# Altium schematic symbol library kmilo17pet-TI_MSP430.SchLib: 1463 symbols (part 120 of 130)
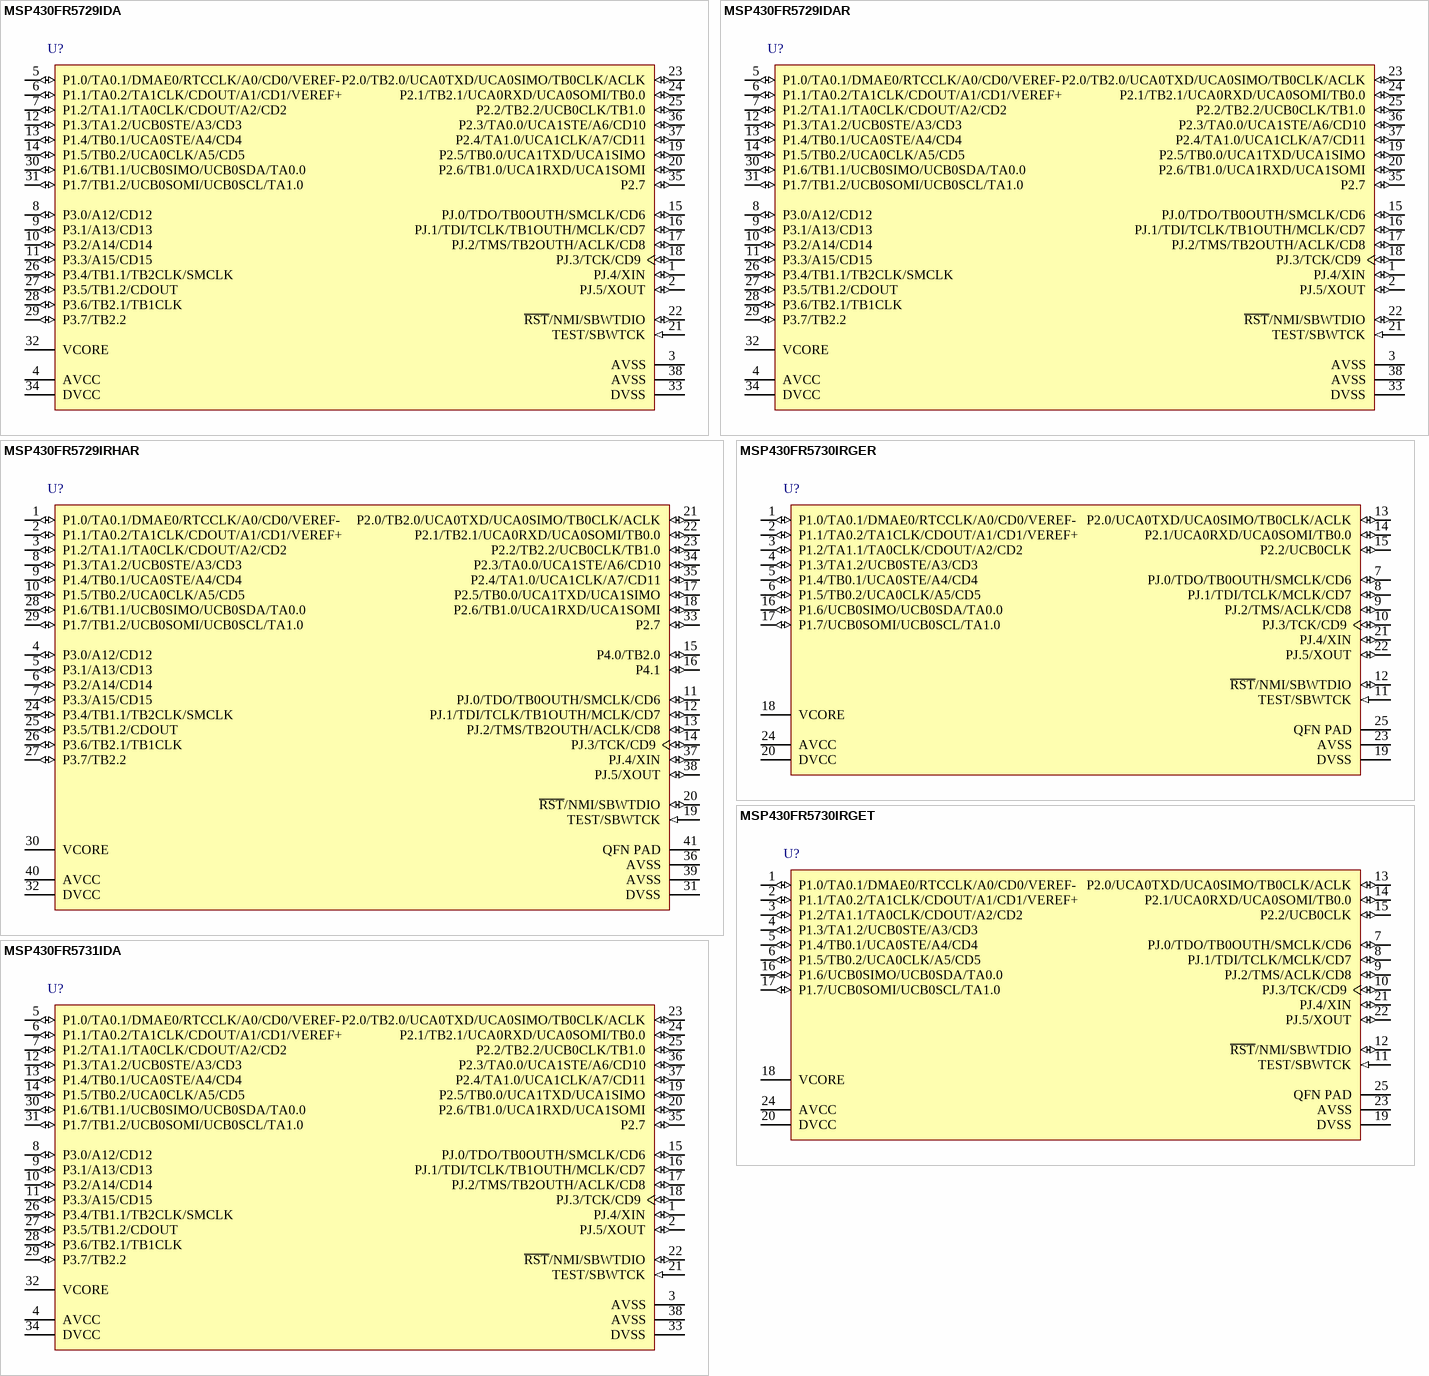
[diagram p395: symbols MSP430FR5729IDA to MSP430FR5731IDA]

## MSP430FR5729IRHAR
designator U?
8 MHz Mixed Signal Microcontroller with 1024 B SRAM and 33 GPIOs, -40 to 85 degC, 40-pin QFN (RHA), Green (RoHS & no Sb/Br); Manufacturer: Texas Instruments; PartNumber: MSP430FR5729IRHAR; ADC: 10-bit SAR; ADC Channels: 14; Brown Out Reset: Yes; DMA: 3; FRAM(KB): 16; Frequency(MHz): 8; GPIO: 33; Multiplier: 32x32; SRAM(B): 1024; SubFamily: FRAM Series; Timers - 16-bit: 5; USCI_A (UART/LIN/IrDA/SPI): 2; USCI_B (I2C & SPI): 1; DatasheetVersion: SLAS639D; PackageReference: RHA40-2900X2900TP; PackageDescription: 40-Pin Plastic Flat Pack, Body 6 x 6 mm, Pitch 0.5 mm; Supplier 1: Digi-Key; Supplier Part Number 1: 296-29233-2-ND; Supplier 2: Digi-Key; Supplier Part Number 2: 296-29233-1-ND; Supplier 3: Digi-Key; Supplier Part Number 3: 296-29233-6-ND; Supplier 4: Newark; Supplier Part Number 4: 45T9757; Supplier 5: Mouser; Supplier Part Number 5: 595-MSP430FR5729IDAR; Comparators: Yes; Eco-Plan: Green (RoHS & no Sb/Br); Real-Time Clock: Yes; SVS: Yes; Watchdog: Yes; Mounting Technology: Surface Mount; Code_JEDEC: MO-153; ComponentLink1Description: Manufacturer URL; ComponentLink1URL: http://www.ti.com/; ComponentLink2Description: Datasheet; ComponentLink2URL: http://www.ti.com/general/docs/lit/getliterature.tsp?genericPartNumber=MSP430FR5729&fileType=pdf; ComponentLink3Description: Package Specification; ComponentLink3URL: http://www.ti.com/litv/pdf/mtss003d
footprint TI-RHA40-2900X2900TP_N (QFN, 40-Leads, Body 6x6mm, Pitch 0.5mm, Thermal Pad 2.9x2.9mm, IPC Medium Density)
pins: 1 P1.0/TA0.1/DMAE0/RTCCLK/A0/CD0/VEREF- (io), 2 P1.1/TA0.2/TA1CLK/CDOUT/A1/CD1/VEREF+ (io), 3 P1.2/TA1.1/TA0CLK/CDOUT/A2/CD2 (io), 4 P3.0/A12/CD12 (io), 5 P3.1/A13/CD13 (io), 6 P3.2/A14/CD14 (io), 7 P3.3/A15/CD15 (io), 8 P1.3/TA1.2/UCB0STE/A3/CD3 (io), 9 P1.4/TB0.1/UCA0STE/A4/CD4 (io), 10 P1.5/TB0.2/UCA0CLK/A5/CD5 (io), 11 PJ.0/TDO/TB0OUTH/SMCLK/CD6 (io), 12 PJ.1/TDI/TCLK/TB1OUTH/MCLK/CD7 (io), 13 PJ.2/TMS/TB2OUTH/ACLK/CD8 (io), 14 PJ.3/TCK/CD9 (io), 15 P4.0/TB2.0 (io), 16 P4.1 (io) "General-purpose digital I/O with port interrupt and wake up from LPMx.5 (not available on package options DA, PW, RGE)", 17 P2.5/TB0.0/UCA1TXD/UCA1SIMO (io), 18 P2.6/TB1.0/UCA1RXD/UCA1SOMI (io), 19 TEST/SBWTCK (in), 20 ~{RST}/NMI/SBWTDIO (io), 21 P2.0/TB2.0/UCA0TXD/UCA0SIMO/TB0CLK/ACLK (io), 22 P2.1/TB2.1/UCA0RXD/UCA0SOMI/TB0.0 (io), 23 P2.2/TB2.2/UCB0CLK/TB1.0 (io), 24 P3.4/TB1.1/TB2CLK/SMCLK (io), 25 P3.5/TB1.2/CDOUT (io), 26 P3.6/TB2.1/TB1CLK (io), 27 P3.7/TB2.2 (io), 28 P1.6/TB1.1/UCB0SIMO/UCB0SDA/TA0.0 (io), 29 P1.7/TB1.2/UCB0SOMI/UCB0SCL/TA1.0 (io), 30 VCORE "Regulated core power supply (internal use only, no external current loading)", 31 DVSS (power) "Digital ground supply", 32 DVCC (power) "Digital power supply", 33 P2.7 (io) "General-purpose digital I/O with port interrupt and wake up from LPMx.5 (not P2.7 33 N/A 35 N/A N/A I/O available on package options PW, RGE)", 34 P2.3/TA0.0/UCA1STE/A6/CD10 (io), 35 P2.4/TA1.0/UCA1CLK/A7/CD11 (io), 36 AVSS (power) "Analog ground supply", 37 PJ.4/XIN (io), 38 PJ.5/XOUT (io), 39 AVSS (power) "Analog ground supply", 40 AVCC (power) "Analog power supply", 41 QFN PAD (power) "QFN package pad. Connection to VSS recommended."

## MSP430FR5730IRGER
designator U?
24 MHz Mixed Signal Microcontroller, 1024 B SRAM and 17 GPIOs, -40 to 85 degC, 24-pin QFN (RGE), Green (RoHS & no Sb/Br); Manufacturer: Texas Instruments; PartNumber: MSP430FR5730IRGER; ADC: 10-bit SAR; ADC Channels: 10; Brown Out Reset: Yes; DMA: 3; FRAM(KB): 4; Frequency(MHz): 24; GPIO: 17; Multiplier: 32x32; SRAM(B): 1024; SubFamily: FRAM Series; USCI_A (UART/LIN/IrDA/SPI): 1; DatasheetVersion: SLAS639D; PackageVersion: 4204104/G; PackageReference: RGE24-2100X2100TP; PackageDescription: 24-Pin Plastic Flat Pack, Body 4 x 4 mm, Pitch 0.5 mm; Supplier 1: Digi-Key; Supplier Part Number 1: 296-29234-2-ND; Supplier 2: Digi-Key; Supplier Part Number 2: 296-29234-1-ND; Supplier 3: Digi-Key; Supplier Part Number 3: 296-29234-6-ND; Supplier 4: Mouser; Supplier Part Number 4: 595-SP430FR5729IRHAR; Comparators: Yes; Eco-Plan: Green (RoHS & no Sb/Br); Real-Time Clock: Yes; SVS: Yes; Timers - 16-bit: 3; USCI_B (I2C & SPI): 1; Watchdog: Yes; Mounting Technology: Surface Mount; Code_JEDEC: MO-220; ComponentLink1Description: Manufacturer URL; ComponentLink1URL: http://www.ti.com/; ComponentLink2Description: Datasheet; ComponentLink2URL: http://www.ti.com/general/docs/lit/getliterature.tsp?genericPartNumber=MSP430FR5730&fileType=pdf; ComponentLink3Description: Package Specification; ComponentLink3URL: http://www.ti.com/litv/pdf/mpqf124f
footprint TI-RGE24-2100X2100TP_N (QFN, 24-Leads, Body 4x4mm, Pitch 0.5mm, Thermal Pad 2.1x2.1mm, IPC Medium Density)
pins: 1 P1.0/TA0.1/DMAE0/RTCCLK/A0/CD0/VEREF- (io), 2 P1.1/TA0.2/TA1CLK/CDOUT/A1/CD1/VEREF+ (io), 3 P1.2/TA1.1/TA0CLK/CDOUT/A2/CD2 (io), 4 P1.3/TA1.2/UCB0STE/A3/CD3 (io), 5 P1.4/TB0.1/UCA0STE/A4/CD4 (io), 6 P1.5/TB0.2/UCA0CLK/A5/CD5 (io), 7 PJ.0/TDO/TB0OUTH/SMCLK/CD6 (io), 8 PJ.1/TDI/TCLK/MCLK/CD7 (io), 9 PJ.2/TMS/ACLK/CD8 (io), 10 PJ.3/TCK/CD9 (io), 11 TEST/SBWTCK (in), 12 ~{RST}/NMI/SBWTDIO (io), 13 P2.0/UCA0TXD/UCA0SIMO/TB0CLK/ACLK (io), 14 P2.1/UCA0RXD/UCA0SOMI/TB0.0 (io), 15 P2.2/UCB0CLK (io), 16 P1.6/UCB0SIMO/UCB0SDA/TA0.0 (io), 17 P1.7/UCB0SOMI/UCB0SCL/TA1.0 (io), 18 VCORE "Regulated core power supply (internal use only, no external current loading)", 19 DVSS (power) "Digital ground supply", 20 DVCC (power) "Digital power supply", 21 PJ.4/XIN (io), 22 PJ.5/XOUT (io), 23 AVSS (power) "Analog ground supply", 24 AVCC (power) "Analog power supply", 25 QFN PAD (power) "QFN package pad. Connection to VSS recommended"

## MSP430FR5730IRGET
designator U?
24 MHz Mixed Signal Microcontroller, 1024 B SRAM and 17 GPIOs, -40 to 85 degC, 24-pin QFN (RGE), Green (RoHS & no Sb/Br); Manufacturer: Texas Instruments; PartNumber: MSP430FR5730IRGET; ADC: 10-bit SAR; ADC Channels: 10; Brown Out Reset: Yes; DMA: 3; FRAM(KB): 4; Frequency(MHz): 24; GPIO: 17; Multiplier: 32x32; SRAM(B): 1024; SubFamily: FRAM Series; USCI_A (UART/LIN/IrDA/SPI): 1; DatasheetVersion: SLAS639D; PackageVersion: 4204104/G; PackageReference: RGE24-2100X2100TP; PackageDescription: 24-Pin Plastic Flat Pack, Body 4 x 4 mm, Pitch 0.5 mm; Supplier 1: Digi-Key; Supplier Part Number 1: 296-29228-2-ND; Supplier 2: Digi-Key; Supplier Part Number 2: 296-29228-1-ND; Supplier 3: Digi-Key; Supplier Part Number 3: 296-29228-6-ND; Supplier 4: Newark; Supplier Part Number 4: 45T9759; Supplier 5: Mouser; Supplier Part Number 5: 595-SP430FR5730IRGER; Comparators: Yes; Eco-Plan: Green (RoHS & no Sb/Br); Real-Time Clock: Yes; SVS: Yes; Timers - 16-bit: 3; USCI_B (I2C & SPI): 1; Watchdog: Yes; Mounting Technology: Surface Mount; Code_JEDEC: MO-220; ComponentLink1Description: Manufacturer URL; ComponentLink1URL: http://www.ti.com/; ComponentLink2Description: Datasheet; ComponentLink2URL: http://www.ti.com/general/docs/lit/getliterature.tsp?genericPartNumber=MSP430FR5730&fileType=pdf; ComponentLink3Description: Package Specification; ComponentLink3URL: http://www.ti.com/litv/pdf/mpqf124f
footprint TI-RGE24-2100X2100TP_N (QFN, 24-Leads, Body 4x4mm, Pitch 0.5mm, Thermal Pad 2.1x2.1mm, IPC Medium Density)
pins: 1 P1.0/TA0.1/DMAE0/RTCCLK/A0/CD0/VEREF- (io), 2 P1.1/TA0.2/TA1CLK/CDOUT/A1/CD1/VEREF+ (io), 3 P1.2/TA1.1/TA0CLK/CDOUT/A2/CD2 (io), 4 P1.3/TA1.2/UCB0STE/A3/CD3 (io), 5 P1.4/TB0.1/UCA0STE/A4/CD4 (io), 6 P1.5/TB0.2/UCA0CLK/A5/CD5 (io), 7 PJ.0/TDO/TB0OUTH/SMCLK/CD6 (io), 8 PJ.1/TDI/TCLK/MCLK/CD7 (io), 9 PJ.2/TMS/ACLK/CD8 (io), 10 PJ.3/TCK/CD9 (io), 11 TEST/SBWTCK (in), 12 ~{RST}/NMI/SBWTDIO (io), 13 P2.0/UCA0TXD/UCA0SIMO/TB0CLK/ACLK (io), 14 P2.1/UCA0RXD/UCA0SOMI/TB0.0 (io), 15 P2.2/UCB0CLK (io), 16 P1.6/UCB0SIMO/UCB0SDA/TA0.0 (io), 17 P1.7/UCB0SOMI/UCB0SCL/TA1.0 (io), 18 VCORE "Regulated core power supply (internal use only, no external current loading)", 19 DVSS (power) "Digital ground supply", 20 DVCC (power) "Digital power supply", 21 PJ.4/XIN (io), 22 PJ.5/XOUT (io), 23 AVSS (power) "Analog ground supply", 24 AVCC (power) "Analog power supply", 25 QFN PAD (power) "QFN package pad. Connection to VSS recommended"

## MSP430FR5731IDA
designator U?
24 MHz Mixed Signal Microcontroller, 1024 B SRAM and 33 GPIOs, -40 to 85 degC, 38-pin SOP (DA), Green (RoHS & no Sb/Br); Manufacturer: Texas Instruments; PartNumber: MSP430FR5731IDA; ADC: 10-bit SAR; ADC Channels: 14; Brown Out Reset: Yes; DMA: 3; FRAM(KB): 4; Frequency(MHz): 24; GPIO: 33; Multiplier: 32x32; SRAM(B): 1024; SubFamily: FRAM Series; Timers - 16-bit: 5; USCI_A (UART/LIN/IrDA/SPI): 2; USCI_B (I2C & SPI): 1; DatasheetVersion: SLAS639D; PackageVersion: 4040066/F; PackageReference: DA38; PackageDescription: 38-Pin Plastic Small-Outline Package, Body 6.10 x 12.50 mm, Pitch 0.65 mm; Supplier 1: Digi-Key; Supplier Part Number 1: MSP430FR5730IRGET-ND; Supplier 2: Farnell; Supplier Part Number 2: 2076777; Supplier 3: Newark; Supplier Part Number 3: 87T1080; Supplier 4: Mouser; Supplier Part Number 4: 595-SP430FR5730IRGET; Comparators: Yes; Eco-Plan: Green (RoHS & no Sb/Br); Real-Time Clock: Yes; SVS: Yes; Watchdog: Yes; Mounting Technology: Surface Mount; Code_JEDEC: MO-153; ComponentLink1Description: Manufacturer URL; ComponentLink1URL: http://www.ti.com/; ComponentLink2Description: Datasheet; ComponentLink2URL: http://www.ti.com/general/docs/lit/getliterature.tsp?genericPartNumber=MSP430FR5731&fileType=pdf; ComponentLink3Description: Package Specification; ComponentLink3URL: http://www.ti.com/lit/ml/mtss002e/mtss002e.pdf
footprint TI-DA38_N (SOP, 38-Leads, Body 12.5x6.1mm, Pitch 0.65mm, IPC Medium Density)
pins: 1 PJ.4/XIN (io), 2 PJ.5/XOUT (io), 3 AVSS (power) "Analog ground supply", 4 AVCC (power) "Analog power supply", 5 P1.0/TA0.1/DMAE0/RTCCLK/A0/CD0/VEREF- (io), 6 P1.1/TA0.2/TA1CLK/CDOUT/A1/CD1/VEREF+ (io), 7 P1.2/TA1.1/TA0CLK/CDOUT/A2/CD2 (io), 8 P3.0/A12/CD12 (io), 9 P3.1/A13/CD13 (io), 10 P3.2/A14/CD14 (io), 11 P3.3/A15/CD15 (io), 12 P1.3/TA1.2/UCB0STE/A3/CD3 (io), 13 P1.4/TB0.1/UCA0STE/A4/CD4 (io), 14 P1.5/TB0.2/UCA0CLK/A5/CD5 (io), 15 PJ.0/TDO/TB0OUTH/SMCLK/CD6 (io), 16 PJ.1/TDI/TCLK/TB1OUTH/MCLK/CD7 (io), 17 PJ.2/TMS/TB2OUTH/ACLK/CD8 (io), 18 PJ.3/TCK/CD9 (io), 19 P2.5/TB0.0/UCA1TXD/UCA1SIMO (io), 20 P2.6/TB1.0/UCA1RXD/UCA1SOMI (io), 21 TEST/SBWTCK (in), 22 ~{RST}/NMI/SBWTDIO (io), 23 P2.0/TB2.0/UCA0TXD/UCA0SIMO/TB0CLK/ACLK (io), 24 P2.1/TB2.1/UCA0RXD/UCA0SOMI/TB0.0 (io), 25 P2.2/TB2.2/UCB0CLK/TB1.0 (io), 26 P3.4/TB1.1/TB2CLK/SMCLK (io), 27 P3.5/TB1.2/CDOUT (io), 28 P3.6/TB2.1/TB1CLK (io), 29 P3.7/TB2.2 (io), 30 P1.6/TB1.1/UCB0SIMO/UCB0SDA/TA0.0 (io), 31 P1.7/TB1.2/UCB0SOMI/UCB0SCL/TA1.0 (io), 32 VCORE "Regulated core power supply (internal use only, no external current loading)", 33 DVSS (power) "Digital ground supply", 34 DVCC (power) "Digital power supply", 35 P2.7 (io) "General-purpose digital I/O with port interrupt and wake up from LPMx.5", 36 P2.3/TA0.0/UCA1STE/A6/CD10 (io), 37 P2.4/TA1.0/UCA1CLK/A7/CD11 (io), 38 AVSS (power) "Analog ground supply"

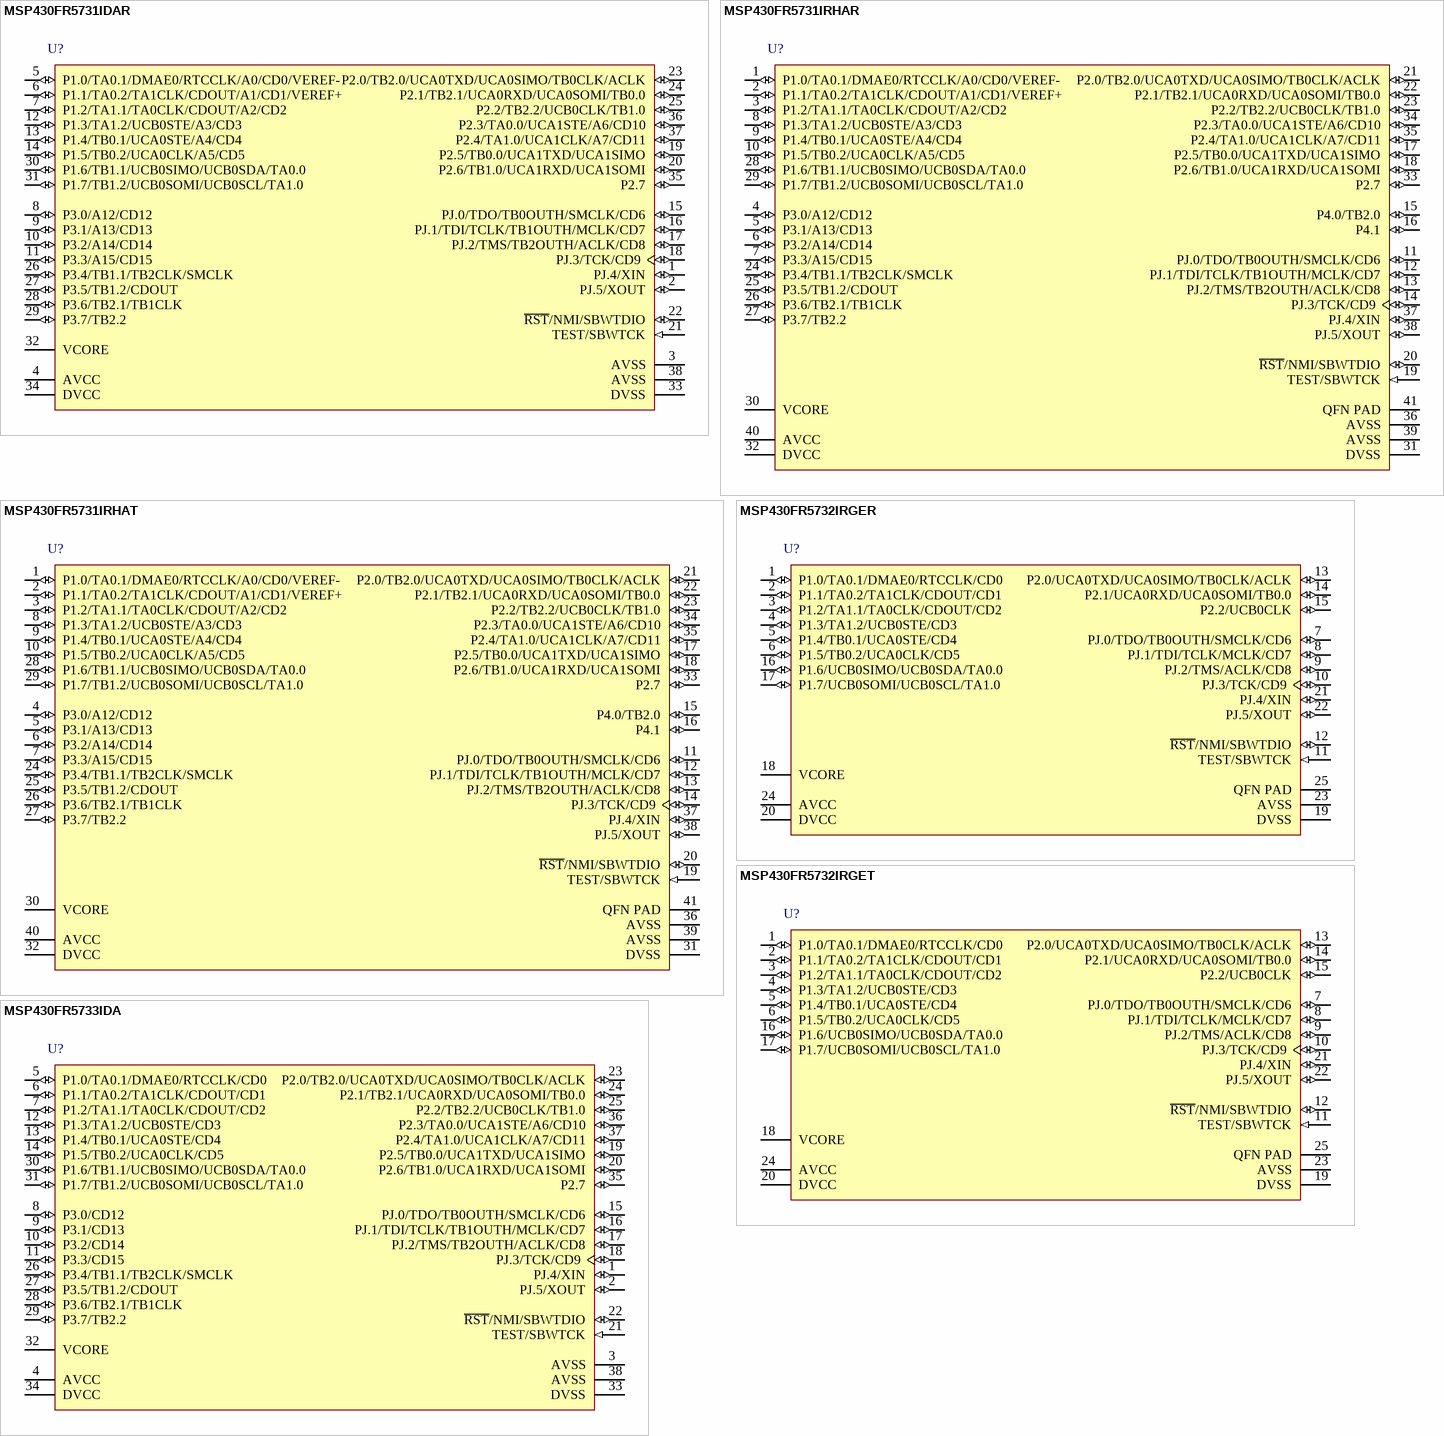
[diagram p205: symbols MSP430FR5731IDAR to MSP430FR5733IDA]

## MSP430FR5731IDAR
designator U?
24 MHz Mixed Signal Microcontroller, 1024 B SRAM and 33 GPIOs, -40 to 85 degC, 38-pin SOP (DA), Green (RoHS & no Sb/Br); Manufacturer: Texas Instruments; PartNumber: MSP430FR5731IDAR; ADC: 10-bit SAR; ADC Channels: 14; Brown Out Reset: Yes; DMA: 3; FRAM(KB): 4; Frequency(MHz): 24; GPIO: 33; Multiplier: 32x32; SRAM(B): 1024; SubFamily: FRAM Series; Timers - 16-bit: 5; USCI_A (UART/LIN/IrDA/SPI): 2; USCI_B (I2C & SPI): 1; DatasheetVersion: SLAS639D; PackageVersion: 4040066/F; PackageReference: DA38; PackageDescription: 38-Pin Plastic Small-Outline Package, Body 6.10 x 12.50 mm, Pitch 0.65 mm; Supplier 1: Mouser; Supplier Part Number 1: N/A; Comparators: Yes; Eco-Plan: Green (RoHS & no Sb/Br); Real-Time Clock: Yes; SVS: Yes; Watchdog: Yes; Mounting Technology: Surface Mount; Code_JEDEC: MO-153; ComponentLink1Description: Manufacturer URL; ComponentLink1URL: http://www.ti.com/; ComponentLink2Description: Datasheet; ComponentLink2URL: http://www.ti.com/general/docs/lit/getliterature.tsp?genericPartNumber=MSP430FR5731&fileType=pdf; ComponentLink3Description: Package Specification; ComponentLink3URL: http://www.ti.com/lit/ml/mtss002e/mtss002e.pdf
footprint TI-DA38_N (SOP, 38-Leads, Body 12.5x6.1mm, Pitch 0.65mm, IPC Medium Density)
pins: 1 PJ.4/XIN (io), 2 PJ.5/XOUT (io), 3 AVSS (power) "Analog ground supply", 4 AVCC (power) "Analog power supply", 5 P1.0/TA0.1/DMAE0/RTCCLK/A0/CD0/VEREF- (io), 6 P1.1/TA0.2/TA1CLK/CDOUT/A1/CD1/VEREF+ (io), 7 P1.2/TA1.1/TA0CLK/CDOUT/A2/CD2 (io), 8 P3.0/A12/CD12 (io), 9 P3.1/A13/CD13 (io), 10 P3.2/A14/CD14 (io), 11 P3.3/A15/CD15 (io), 12 P1.3/TA1.2/UCB0STE/A3/CD3 (io), 13 P1.4/TB0.1/UCA0STE/A4/CD4 (io), 14 P1.5/TB0.2/UCA0CLK/A5/CD5 (io), 15 PJ.0/TDO/TB0OUTH/SMCLK/CD6 (io), 16 PJ.1/TDI/TCLK/TB1OUTH/MCLK/CD7 (io), 17 PJ.2/TMS/TB2OUTH/ACLK/CD8 (io), 18 PJ.3/TCK/CD9 (io), 19 P2.5/TB0.0/UCA1TXD/UCA1SIMO (io), 20 P2.6/TB1.0/UCA1RXD/UCA1SOMI (io), 21 TEST/SBWTCK (in), 22 ~{RST}/NMI/SBWTDIO (io), 23 P2.0/TB2.0/UCA0TXD/UCA0SIMO/TB0CLK/ACLK (io), 24 P2.1/TB2.1/UCA0RXD/UCA0SOMI/TB0.0 (io), 25 P2.2/TB2.2/UCB0CLK/TB1.0 (io), 26 P3.4/TB1.1/TB2CLK/SMCLK (io), 27 P3.5/TB1.2/CDOUT (io), 28 P3.6/TB2.1/TB1CLK (io), 29 P3.7/TB2.2 (io), 30 P1.6/TB1.1/UCB0SIMO/UCB0SDA/TA0.0 (io), 31 P1.7/TB1.2/UCB0SOMI/UCB0SCL/TA1.0 (io), 32 VCORE "Regulated core power supply (internal use only, no external current loading)", 33 DVSS (power) "Digital ground supply", 34 DVCC (power) "Digital power supply", 35 P2.7 (io) "General-purpose digital I/O with port interrupt and wake up from LPMx.5", 36 P2.3/TA0.0/UCA1STE/A6/CD10 (io), 37 P2.4/TA1.0/UCA1CLK/A7/CD11 (io), 38 AVSS (power) "Analog ground supply"

## MSP430FR5731IRHAR
designator U?
24 MHz Mixed Signal Microcontroller, 1024 B SRAM and 33 GPIOs, -40 to 85 degC, 40-pin QFN (RHA), Green (RoHS & no Sb/Br); Manufacturer: Texas Instruments; PartNumber: MSP430FR5731IRHAR; ADC: 10-bit SAR; ADC Channels: 14; Brown Out Reset: Yes; DMA: 3; FRAM(KB): 4; Frequency(MHz): 24; GPIO: 33; Multiplier: 32x32; SRAM(B): 1024; SubFamily: FRAM Series; Timers - 16-bit: 5; USCI_A (UART/LIN/IrDA/SPI): 2; USCI_B (I2C & SPI): 1; DatasheetVersion: SLAS639D; PackageReference: RHA40-2900X2900TP; PackageDescription: 40-Pin Plastic Flat Pack, Body 6 x 6 mm, Pitch 0.5 mm; Supplier 1: Digi-Key; Supplier Part Number 1: MSP430FR5731IDAR-ND; Supplier 2: Newark; Supplier Part Number 2: 87T1081; Supplier 3: Mouser; Supplier Part Number 3: 595-MSP430FR5731IDAR; Comparators: Yes; Eco-Plan: Green (RoHS & no Sb/Br); Real-Time Clock: Yes; SVS: Yes; Watchdog: Yes; Mounting Technology: Surface Mount; Code_JEDEC: MO-153; ComponentLink1Description: Manufacturer URL; ComponentLink1URL: http://www.ti.com/; ComponentLink2Description: Datasheet; ComponentLink2URL: http://www.ti.com/general/docs/lit/getliterature.tsp?genericPartNumber=MSP430FR5731&fileType=pdf; ComponentLink3Description: Package Specification; ComponentLink3URL: http://www.ti.com/litv/pdf/mtss003d
footprint TI-RHA40-2900X2900TP_N (QFN, 40-Leads, Body 6x6mm, Pitch 0.5mm, Thermal Pad 2.9x2.9mm, IPC Medium Density)
pins: 1 P1.0/TA0.1/DMAE0/RTCCLK/A0/CD0/VEREF- (io), 2 P1.1/TA0.2/TA1CLK/CDOUT/A1/CD1/VEREF+ (io), 3 P1.2/TA1.1/TA0CLK/CDOUT/A2/CD2 (io), 4 P3.0/A12/CD12 (io), 5 P3.1/A13/CD13 (io), 6 P3.2/A14/CD14 (io), 7 P3.3/A15/CD15 (io), 8 P1.3/TA1.2/UCB0STE/A3/CD3 (io), 9 P1.4/TB0.1/UCA0STE/A4/CD4 (io), 10 P1.5/TB0.2/UCA0CLK/A5/CD5 (io), 11 PJ.0/TDO/TB0OUTH/SMCLK/CD6 (io), 12 PJ.1/TDI/TCLK/TB1OUTH/MCLK/CD7 (io), 13 PJ.2/TMS/TB2OUTH/ACLK/CD8 (io), 14 PJ.3/TCK/CD9 (io), 15 P4.0/TB2.0 (io), 16 P4.1 (io) "General-purpose digital I/O with port interrupt and wake up from LPMx.5 (not available on package options DA, PW, RGE)", 17 P2.5/TB0.0/UCA1TXD/UCA1SIMO (io), 18 P2.6/TB1.0/UCA1RXD/UCA1SOMI (io), 19 TEST/SBWTCK (in), 20 ~{RST}/NMI/SBWTDIO (io), 21 P2.0/TB2.0/UCA0TXD/UCA0SIMO/TB0CLK/ACLK (io), 22 P2.1/TB2.1/UCA0RXD/UCA0SOMI/TB0.0 (io), 23 P2.2/TB2.2/UCB0CLK/TB1.0 (io), 24 P3.4/TB1.1/TB2CLK/SMCLK (io), 25 P3.5/TB1.2/CDOUT (io), 26 P3.6/TB2.1/TB1CLK (io), 27 P3.7/TB2.2 (io), 28 P1.6/TB1.1/UCB0SIMO/UCB0SDA/TA0.0 (io), 29 P1.7/TB1.2/UCB0SOMI/UCB0SCL/TA1.0 (io), 30 VCORE "Regulated core power supply (internal use only, no external current loading)", 31 DVSS (power) "Digital ground supply", 32 DVCC (power) "Digital power supply", 33 P2.7 (io) "General-purpose digital I/O with port interrupt and wake up from LPMx.5 (not P2.7 33 N/A 35 N/A N/A I/O available on package options PW, RGE)", 34 P2.3/TA0.0/UCA1STE/A6/CD10 (io), 35 P2.4/TA1.0/UCA1CLK/A7/CD11 (io), 36 AVSS (power) "Analog ground supply", 37 PJ.4/XIN (io), 38 PJ.5/XOUT (io), 39 AVSS (power) "Analog ground supply", 40 AVCC (power) "Analog power supply", 41 QFN PAD (power) "QFN package pad. Connection to VSS recommended."

## MSP430FR5731IRHAT
designator U?
24 MHz Mixed Signal Microcontroller, 1024 B SRAM and 33 GPIOs, -40 to 85 degC, 40-pin QFN (RHA), Green (RoHS & no Sb/Br); Manufacturer: Texas Instruments; PartNumber: MSP430FR5731IRHAT; ADC: 10-bit SAR; ADC Channels: 14; Brown Out Reset: Yes; DMA: 3; FRAM(KB): 4; Frequency(MHz): 24; GPIO: 33; Multiplier: 32x32; SRAM(B): 1024; SubFamily: FRAM Series; Timers - 16-bit: 5; USCI_A (UART/LIN/IrDA/SPI): 2; USCI_B (I2C & SPI): 1; DatasheetVersion: SLAS639D; PackageReference: RHA40-2900X2900TP; PackageDescription: 40-Pin Plastic Flat Pack, Body 6 x 6 mm, Pitch 0.5 mm; Supplier 1: Digi-Key; Supplier Part Number 1: MSP430FR5731IRHAR-ND; Supplier 2: Newark; Supplier Part Number 2: 87T1082; Supplier 3: Mouser; Supplier Part Number 3: 595-SP430FR5731IRHAR; Comparators: Yes; Eco-Plan: Green (RoHS & no Sb/Br); Real-Time Clock: Yes; SVS: Yes; Watchdog: Yes; Mounting Technology: Surface Mount; Code_JEDEC: MO-153; ComponentLink1Description: Manufacturer URL; ComponentLink1URL: http://www.ti.com/; ComponentLink2Description: Datasheet; ComponentLink2URL: http://www.ti.com/general/docs/lit/getliterature.tsp?genericPartNumber=MSP430FR5731&fileType=pdf; ComponentLink3Description: Package Specification; ComponentLink3URL: http://www.ti.com/litv/pdf/mtss003d
footprint TI-RHA40-2900X2900TP_N (QFN, 40-Leads, Body 6x6mm, Pitch 0.5mm, Thermal Pad 2.9x2.9mm, IPC Medium Density)
pins: 1 P1.0/TA0.1/DMAE0/RTCCLK/A0/CD0/VEREF- (io), 2 P1.1/TA0.2/TA1CLK/CDOUT/A1/CD1/VEREF+ (io), 3 P1.2/TA1.1/TA0CLK/CDOUT/A2/CD2 (io), 4 P3.0/A12/CD12 (io), 5 P3.1/A13/CD13 (io), 6 P3.2/A14/CD14 (io), 7 P3.3/A15/CD15 (io), 8 P1.3/TA1.2/UCB0STE/A3/CD3 (io), 9 P1.4/TB0.1/UCA0STE/A4/CD4 (io), 10 P1.5/TB0.2/UCA0CLK/A5/CD5 (io), 11 PJ.0/TDO/TB0OUTH/SMCLK/CD6 (io), 12 PJ.1/TDI/TCLK/TB1OUTH/MCLK/CD7 (io), 13 PJ.2/TMS/TB2OUTH/ACLK/CD8 (io), 14 PJ.3/TCK/CD9 (io), 15 P4.0/TB2.0 (io), 16 P4.1 (io) "General-purpose digital I/O with port interrupt and wake up from LPMx.5 (not available on package options DA, PW, RGE)", 17 P2.5/TB0.0/UCA1TXD/UCA1SIMO (io), 18 P2.6/TB1.0/UCA1RXD/UCA1SOMI (io), 19 TEST/SBWTCK (in), 20 ~{RST}/NMI/SBWTDIO (io), 21 P2.0/TB2.0/UCA0TXD/UCA0SIMO/TB0CLK/ACLK (io), 22 P2.1/TB2.1/UCA0RXD/UCA0SOMI/TB0.0 (io), 23 P2.2/TB2.2/UCB0CLK/TB1.0 (io), 24 P3.4/TB1.1/TB2CLK/SMCLK (io), 25 P3.5/TB1.2/CDOUT (io), 26 P3.6/TB2.1/TB1CLK (io), 27 P3.7/TB2.2 (io), 28 P1.6/TB1.1/UCB0SIMO/UCB0SDA/TA0.0 (io), 29 P1.7/TB1.2/UCB0SOMI/UCB0SCL/TA1.0 (io), 30 VCORE "Regulated core power supply (internal use only, no external current loading)", 31 DVSS (power) "Digital ground supply", 32 DVCC (power) "Digital power supply", 33 P2.7 (io) "General-purpose digital I/O with port interrupt and wake up from LPMx.5 (not P2.7 33 N/A 35 N/A N/A I/O available on package options PW, RGE)", 34 P2.3/TA0.0/UCA1STE/A6/CD10 (io), 35 P2.4/TA1.0/UCA1CLK/A7/CD11 (io), 36 AVSS (power) "Analog ground supply", 37 PJ.4/XIN (io), 38 PJ.5/XOUT (io), 39 AVSS (power) "Analog ground supply", 40 AVCC (power) "Analog power supply", 41 QFN PAD (power) "QFN package pad. Connection to VSS recommended."

## MSP430FR5732IRGER
designator U?
24 MHz Mixed Signal Microcontroller, 1024 B SRAM and 17 GPIOs, -40 to 85 degC, 24-pin QFN (RGE), Green (RoHS & no Sb/Br); Manufacturer: Texas Instruments; PartNumber: MSP430FR5732IRGER; Brown Out Reset: Yes; DMA: 3; FRAM(KB): 4; Frequency(MHz): 24; GPIO: 17; Multiplier: 32x32; SRAM(B): 1024; SubFamily: FRAM Series; USCI_A (UART/LIN/IrDA/SPI): 1; DatasheetVersion: SLAS639D; PackageVersion: 4204104/G; PackageReference: RGE24-2100X2100TP; PackageDescription: 24-Pin Plastic Flat Pack, Body 4 x 4 mm, Pitch 0.5 mm; Supplier 1: Digi-Key; Supplier Part Number 1: 296-30272-2-ND; Supplier 2: Digi-Key; Supplier Part Number 2: 296-30272-1-ND; Supplier 3: Digi-Key; Supplier Part Number 3: 296-30272-6-ND; Supplier 4: Farnell; Supplier Part Number 4: 2093990; Supplier 5: Newark; Supplier Part Number 5: 89T8877; Supplier 6: Newark; Supplier Part Number 6: 87T1083; Supplier 7: Mouser; Supplier Part Number 7: 595-SP430FR5731IRHAT; Comparators: Yes; Eco-Plan: Green (RoHS & no Sb/Br); Real-Time Clock: Yes; SVS: Yes; Timers - 16-bit: 3; USCI_B (I2C & SPI): 1; Watchdog: Yes; Mounting Technology: Surface Mount; Code_JEDEC: MO-220; ComponentLink1Description: Manufacturer URL; ComponentLink1URL: http://www.ti.com/; ComponentLink2Description: Datasheet; ComponentLink2URL: http://www.ti.com/general/docs/lit/getliterature.tsp?genericPartNumber=MSP430FR5732&fileType=pdf; ComponentLink3Description: Package Specification; ComponentLink3URL: http://www.ti.com/litv/pdf/mpqf124f
footprint TI-RGE24-2100X2100TP_N (QFN, 24-Leads, Body 4x4mm, Pitch 0.5mm, Thermal Pad 2.1x2.1mm, IPC Medium Density)
pins: 1 P1.0/TA0.1/DMAE0/RTCCLK/CD0 (io), 2 P1.1/TA0.2/TA1CLK/CDOUT/CD1 (io), 3 P1.2/TA1.1/TA0CLK/CDOUT/CD2 (io), 4 P1.3/TA1.2/UCB0STE/CD3 (io), 5 P1.4/TB0.1/UCA0STE/CD4 (io), 6 P1.5/TB0.2/UCA0CLK/CD5 (io), 7 PJ.0/TDO/TB0OUTH/SMCLK/CD6 (io), 8 PJ.1/TDI/TCLK/MCLK/CD7 (io), 9 PJ.2/TMS/ACLK/CD8 (io), 10 PJ.3/TCK/CD9 (io), 11 TEST/SBWTCK (in), 12 ~{RST}/NMI/SBWTDIO (io), 13 P2.0/UCA0TXD/UCA0SIMO/TB0CLK/ACLK (io), 14 P2.1/UCA0RXD/UCA0SOMI/TB0.0 (io), 15 P2.2/UCB0CLK (io), 16 P1.6/UCB0SIMO/UCB0SDA/TA0.0 (io), 17 P1.7/UCB0SOMI/UCB0SCL/TA1.0 (io), 18 VCORE "Regulated core power supply (internal use only, no external current loading)", 19 DVSS (power) "Digital ground supply", 20 DVCC (power) "Digital power supply", 21 PJ.4/XIN (io), 22 PJ.5/XOUT (io), 23 AVSS (power) "Analog ground supply", 24 AVCC (power) "Analog power supply", 25 QFN PAD "QFN package pad. Connection to VSS recommended."

## MSP430FR5732IRGET
designator U?
24 MHz Mixed Signal Microcontroller, 1024 B SRAM and 17 GPIOs, -40 to 85 degC, 24-pin QFN (RGE), Green (RoHS & no Sb/Br); Manufacturer: Texas Instruments; PartNumber: MSP430FR5732IRGET; Brown Out Reset: Yes; DMA: 3; FRAM(KB): 4; Frequency(MHz): 24; GPIO: 17; Multiplier: 32x32; SRAM(B): 1024; SubFamily: FRAM Series; USCI_A (UART/LIN/IrDA/SPI): 1; DatasheetVersion: SLAS639D; PackageVersion: 4204104/G; PackageReference: RGE24-2100X2100TP; PackageDescription: 24-Pin Plastic Flat Pack, Body 4 x 4 mm, Pitch 0.5 mm; Supplier 1: Digi-Key; Supplier Part Number 1: MSP430FR5732IRGER-ND; Supplier 2: Newark; Supplier Part Number 2: 87T1084; Supplier 3: Mouser; Supplier Part Number 3: 595-SP430FR5732IRGER; Comparators: Yes; Eco-Plan: Green (RoHS & no Sb/Br); Real-Time Clock: Yes; SVS: Yes; Timers - 16-bit: 3; USCI_B (I2C & SPI): 1; Watchdog: Yes; Mounting Technology: Surface Mount; Code_JEDEC: MO-220; ComponentLink1Description: Manufacturer URL; ComponentLink1URL: http://www.ti.com/; ComponentLink2Description: Datasheet; ComponentLink2URL: http://www.ti.com/general/docs/lit/getliterature.tsp?genericPartNumber=MSP430FR5732&fileType=pdf; ComponentLink3Description: Package Specification; ComponentLink3URL: http://www.ti.com/litv/pdf/mpqf124f
footprint TI-RGE24-2100X2100TP_N (QFN, 24-Leads, Body 4x4mm, Pitch 0.5mm, Thermal Pad 2.1x2.1mm, IPC Medium Density)
pins: 1 P1.0/TA0.1/DMAE0/RTCCLK/CD0 (io), 2 P1.1/TA0.2/TA1CLK/CDOUT/CD1 (io), 3 P1.2/TA1.1/TA0CLK/CDOUT/CD2 (io), 4 P1.3/TA1.2/UCB0STE/CD3 (io), 5 P1.4/TB0.1/UCA0STE/CD4 (io), 6 P1.5/TB0.2/UCA0CLK/CD5 (io), 7 PJ.0/TDO/TB0OUTH/SMCLK/CD6 (io), 8 PJ.1/TDI/TCLK/MCLK/CD7 (io), 9 PJ.2/TMS/ACLK/CD8 (io), 10 PJ.3/TCK/CD9 (io), 11 TEST/SBWTCK (in), 12 ~{RST}/NMI/SBWTDIO (io), 13 P2.0/UCA0TXD/UCA0SIMO/TB0CLK/ACLK (io), 14 P2.1/UCA0RXD/UCA0SOMI/TB0.0 (io), 15 P2.2/UCB0CLK (io), 16 P1.6/UCB0SIMO/UCB0SDA/TA0.0 (io), 17 P1.7/UCB0SOMI/UCB0SCL/TA1.0 (io), 18 VCORE "Regulated core power supply (internal use only, no external current loading)", 19 DVSS (power) "Digital ground supply", 20 DVCC (power) "Digital power supply", 21 PJ.4/XIN (io), 22 PJ.5/XOUT (io), 23 AVSS (power) "Analog ground supply", 24 AVCC (power) "Analog power supply", 25 QFN PAD "QFN package pad. Connection to VSS recommended."